# Altium schematic symbol library ZLM.SchLib: 46 symbols
Pins are listed as number, name and electrical type; pins without a type are passive.

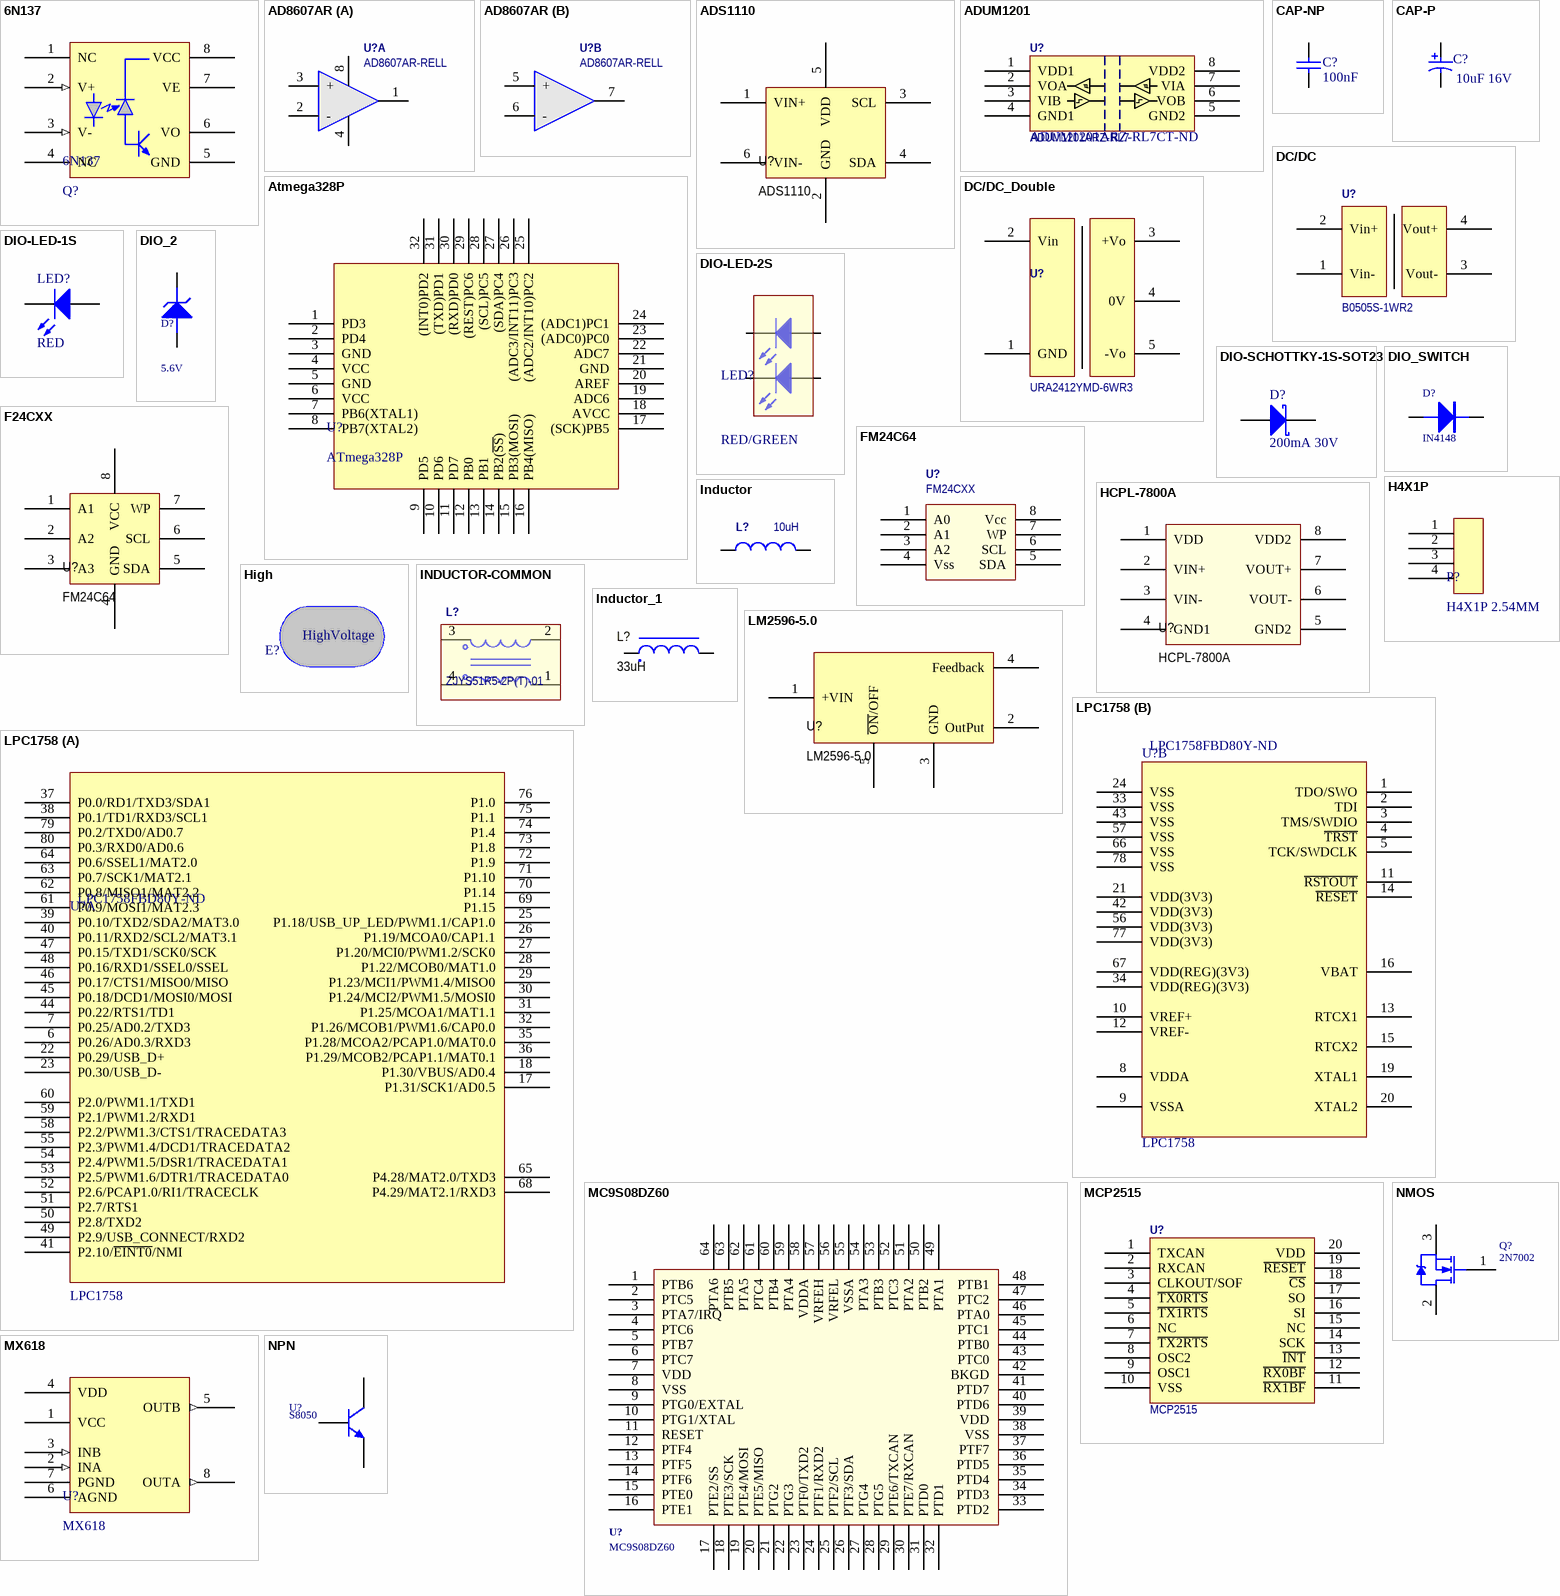
[diagram p0: symbols 6N137 to NPN]

## 6N137
designator 6N137, comment Q?
6N137
footprint DIP8
pins: 1 NC (power), 2 V+ (in), 3 V- (in), 4 NC (power), 5 GND (power), 6 VO, 7 VE, 8 VCC (power)

## AD8607AR
designator U?, comment AD8607AR-RELL
Low Nosi CMOS Rail-to-Rail Input/Output Operational Amplifiers
footprint SOP-8
part A pins: 1 OUT1, 2 -, 3 +, 4 V- (power), 8 V+ (power)
part B pins: 5 +, 6 -, 7 OUT2

## ADS1110
designator U?
16-Bit ANALOG-TO-DIGITAL CONVERTER; Value: 2.048V,+-0.05%
pins: 1 VIN+, 2 GND, 3 SCL, 4 SDA, 5 VDD, 6 VIN-

## ADUM1201
designator U?, comment ADUM1201ARZ-RL7  Supplier Part Number 1: ADUM1201ARZ-RL7CT-ND
Dual-Channel Digital Isolators; Supplier 1: Digi-Key
footprint SOP-8
pins: 1 VDD1, 2 VOA, 3 VIB, 4 GND1, 5 GND2, 6 VOB, 7 VIA, 8 VDD2

## Atmega328P
designator U?, comment ATmega328P
High Performance, Low Power AVR? 8-Bit Microcontroller
footprint TQFP32 (Thin QFP, 32-Leads, Body 7x7mm, Pitch 0.8mm, IPC Medium Density)
pins: 1 PD3, 2 PD4, 3 GND, 4 VCC, 5 GND, 6 VCC, 7 PB6(XTAL1), 8 PB7(XTAL2), 9 PD5, 10 PD6, 11 PD7, 12 PB0, 13 PB1, 14 PB2(~{SS}), 15 PB3(MOSI), 16 PB4(MISO), 17 (SCK)PB5, 18 AVCC, 19 ADC6, 20 AREF, 21 GND, 22 ADC7, 23 (ADC0)PC0, 24 (ADC1)PC1, 25 (ADC2/INT10)PC2, 26 (ADC3/INT11)PC3, 27 (SDA)PC4, 28 (SCL)PC5, 29 (REST)PC6, 30 (RXD)PD0, 31 (TXD)PD1, 32 (INT0)PD2

## CAP-NP
designator C?, comment 100nF
Capacitor; Value: 16V; Design Item Id: CAP-NP-100nF-16V-0603
footprint 0603S
pins: 1, 2

## CAP-P
designator C?, comment 10uF 16V
Polar Capacitor; Design Item Id: CAP-P-10uF-16V-MCCT-B
footprint SMD-D10MM
pins: 1, 2

## DC/DC
designator U?, comment B0505S-1WR2
MORNSUN DC/DC; Value: DC5V,1W,1500VDC,SIP/DIP
footprint DC/DC 2.54-4P
pins: 1 Vin-, 2 Vin+, 3 Vout-, 4 Vout+

## DC/DC_Double
designator U?, comment URA2412YMD-6WR3
MORNSUN DC/DC,URA2412YMD-6WR3,9-36V,6W; Value: DC9-36V,6W,(+-12V),1500VDC,SIP/DIP
footprint URA/B_YMD-6WR3
pins: 1 GND, 2 Vin, 3 +Vo, 4 0V, 5 -Vo

## DIO-LED-1S
designator LED?, comment RED
Typical GREEN SMD LED Agilent make; Design Item Id: LED-RED-HSMHC170
footprint 0603D
pins: 1 A, 2 K

## DIO-LED-2S
designator LED?, comment RED/GREEN
Typical GREEN SMD LED Agilent make; Design Item Id: LED-RED-HSMHC170
footprint DIP_LES_2S_90W
pins: 1 A, 2 K, 3 A, 4 K

## DIO-SCHOTTKY-1S-SOT23
designator D?, comment 200mA 30V
Schottky Barrier Double Diode; Design Item Id: DIO-SCHOTTKY-1S-SOT23
footprint SOD-323
pins: 1 A, 2 K

## DIO_2
designator D?, comment 5.6V
Silicon Epitaxial Planar Switching Diode,75V
footprint SOD-323
pins: 1 A, 2 K

## DIO_SWITCH
designator D?, comment IN4148
Silicon Epitaxial Planar Switching Diode,75V
footprint 1206D
footprint DO-214AC
pins: 1 A, 2 K

## F24CXX
designator U?, comment FM24C64
FM24C64,8K FLASH,IIC; Value: FM24C64
footprint SOP-8
pins: 1 A1, 2 A2, 3 A3, 4 GND, 5 SDA, 6 SCL, 7 WP, 8 VCC

## FM24C64
designator U?, comment FM24CXX
IIC Interface Serial EEPROM
footprint SOP-8
pins: 1 A0, 2 A1, 3 A2, 4 Vss, 5 SDA, 6 SCL, 7 WP, 8 Vcc

## H4X1P
designator P?, comment H4X1P 2.54MM
footprint HDR1X4H-2.54MM
pins: 1, 2, 3, 4

## HCPL-7800A
designator U?
High CMR Isolation Amplifiers; Value: 15kV/s Common-Mode
footprint SOP-8L
pins: 1 VDD, 2 VIN+, 3 VIN-, 4 GND1, 5 GND2, 6 VOUT-, 7 VOUT+, 8 VDD2

## High
designator E?, comment HighVoltage  (value not drawn)
footprint IEC_HighVoltage_Small

## Inductor
designator L?, comment 10uH
Indutor; Code_IEC: 1005; Published: 8-Jun-2000; LatestRevisionDate: 29-May-2009; LatestRevisionNote: IPC-7351 Footprint Added.; PackageReference: 0402-A; Publisher: Altium Limited; PackageDescription: Chip Inductor; Code_JEITA: 0402; Value: 10uH
footprint 0805
pins: 1, 2

## INDUCTOR-COMMON
designator L?, comment ZJYS51R5-2P(T)-01
Common Mode Filters For General Signal Line
footprint ZJYS51R5-2P(T)-01
pins: 1, 2, 3, 4

## Inductor_1
designator L?, comment 33uH
Inductor_1; Value: CDRH127R 12*12*7MM
pins: 1, 2

## LM2596-5.0
designator U?
LM2596 SIMPLE SWITCHER? Power Converter 150-kHz  3-A Step-Down Voltage Regulator; Value: 5-V
footprint SOT-263-5
pins: 1 +VIN, 2 OutPut, 3 GND, 4 Feedback, 5 ~{ON}/OFF

## LPC1758
designator U?  Supplier Part Number 1: LPC1758FBD80Y-ND
LPC1759/58/56/54/52/51  32-bit ARM Cortex-M3 MCU; up to 512 kB flash and 64 kB  SRAM with Ethernet, USB 2.0 Host/Device/OTG, CAN; Supplier 1: Digi-Key
footprint LQFP80
part A pins: 6 P0.26/AD0.3/RXD3, 7 P0.25/AD0.2/TXD3, 17 P1.31/SCK1/AD0.5, 18 P1.30/VBUS/AD0.4, 22 P0.29/USB_D+, 23 P0.30/USB_D-, 25 P1.18/USB_UP_LED/PWM1.1/CAP1.0, 26 P1.19/MCOA0/CAP1.1, 27 P1.20/MCI0/PWM1.2/SCK0, 28 P1.22/MCOB0/MAT1.0, 29 P1.23/MCI1/PWM1.4/MISO0, 30 P1.24/MCI2/PWM1.5/MOSI0, 31 P1.25/MCOA1/MAT1.1, 32 P1.26/MCOB1/PWM1.6/CAP0.0, 35 P1.28/MCOA2/PCAP1.0/MAT0.0, 36 P1.29/MCOB2/PCAP1.1/MAT0.1, 37 P0.0/RD1/TXD3/SDA1, 38 P0.1/TD1/RXD3/SCL1, 39 P0.10/TXD2/SDA2/MAT3.0, 40 P0.11/RXD2/SCL2/MAT3.1, 41 P2.10/~{EINT0}/NMI, 44 P0.22/RTS1/TD1, 45 P0.18/DCD1/MOSI0/MOSI, 46 P0.17/CTS1/MISO0/MISO, 47 P0.15/TXD1/SCK0/SCK, 48 P0.16/RXD1/SSEL0/SSEL, 49 P2.9/USB_CONNECT/RXD2, 50 P2.8/TXD2, 51 P2.7/RTS1, 52 P2.6/PCAP1.0/RI1/TRACECLK, 53 P2.5/PWM1.6/DTR1/TRACEDATA0, 54 P2.4/PWM1.5/DSR1/TRACEDATA1, 55 P2.3/PWM1.4/DCD1/TRACEDATA2, 58 P2.2/PWM1.3/CTS1/TRACEDATA3, 59 P2.1/PWM1.2/RXD1, 60 P2.0/PWM1.1/TXD1, 61 P0.9/MOSI1/MAT2.3, 62 P0.8/MISO1/MAT2.2, 63 P0.7/SCK1/MAT2.1, 64 P0.6/SSEL1/MAT2.0, 65 P4.28/MAT2.0/TXD3, 68 P4.29/MAT2.1/RXD3, 69 P1.15, 70 P1.14, 71 P1.10, 72 P1.9, 73 P1.8, 74 P1.4, 75 P1.1, 76 P1.0, 79 P0.2/TXD0/AD0.7, 80 P0.3/RXD0/AD0.6
part B pins: 1 TDO/SWO, 2 TDI, 3 TMS/SWDIO, 4 ~{TRST}, 5 TCK/SWDCLK, 8 VDDA, 9 VSSA, 10 VREF+, 11 ~{RSTOUT}, 12 VREF-, 13 RTCX1, 14 ~{RESET}, 15 RTCX2, 16 VBAT, 19 XTAL1, 20 XTAL2, 21 VDD(3V3), 24 VSS, 33 VSS, 34 VDD(REG)(3V3), 42 VDD(3V3), 43 VSS, 56 VDD(3V3), 57 VSS, 66 VSS, 67 VDD(REG)(3V3), 77 VDD(3V3), 78 VSS

## MC9S08DZ60
designator U?
FreeScale
footprint TQFP64_EP
pins: 1 PTB6, 2 PTC5, 3 PTA7/IRQ, 4 PTC6, 5 PTB7, 6 PTC7, 7 VDD, 8 VSS, 9 PTG0/EXTAL, 10 PTG1/XTAL, 11 RESET, 12 PTF4, 13 PTF5, 14 PTF6, 15 PTE0, 16 PTE1, 17 PTE2/SS, 18 PTE3/SCK, 19 PTE4/MOSI, 20 PTE5/MISO, 21 PTG2, 22 PTG3, 23 PTF0/TXD2, 24 PTF1/RXD2, 25 PTF2/SCL, 26 PTF3/SDA, 27 PTG4, 28 PTG5, 29 PTE6/TXCAN, 30 PTE7/RXCAN, 31 PTD0, 32 PTD1, 33 PTD2, 34 PTD3, 35 PTD4, 36 PTD5, 37 PTF7, 38 VSS, 39 VDD, 40 PTD6, 41 PTD7, 42 BKGD, 43 PTC0, 44 PTB0, 45 PTC1, 46 PTA0, 47 PTC2, 48 PTB1, 49 PTA1, 50 PTB2, 51 PTA2, 52 PTC3, 53 PTB3, 54 PTA3, 55 VSSA, 56 VRFEL, 57 VRFEH, 58 VDDA, 59 PTA4, 60 PTB4, 61 PTC4, 62 PTA5, 63 PTB5, 64 PTA6

## MCP2515
designator U?
Microchip MCP2515
footprint TSSOP20 (Shrink Small Outline; 20 Leads; Body Width 4.4 mm; Pitch 0.65 mm)
pins: 1 TXCAN, 2 RXCAN, 3 CLKOUT/SOF, 4 ~{TX0RTS}, 5 ~{TX1RTS}, 6 NC, 7 ~{TX2RTS}, 8 OSC2, 9 OSC1, 10 VSS, 11 ~{RX1BF}, 12 ~{RX0BF}, 13 ~{INT}, 14 SCK, 15 NC, 16 SI, 17 SO, 18 ~{CS}, 19 ~{RESET}, 20 VDD

## MX618
designator U?
DC 2V-9.6V Motor Contl
footprint SOP-8
pins: 1 VCC (power), 2 INA (in), 3 INB (in), 4 VDD (power), 5 OUTB (out), 6 AGND, 7 PGND, 8 OUTA (out)

## NMOS
designator Q?, comment 2N7002
N-Channel MOSFET
footprint SOT-23
pins: 1 G, 2 S, 3 D

## NPN
designator U?, comment S8050
NPN,Silicon Epitaxial Planar Transistor; Design Item Id: MMBT5551
footprint SOT23
pins: 1 B, 2 E, 3 C

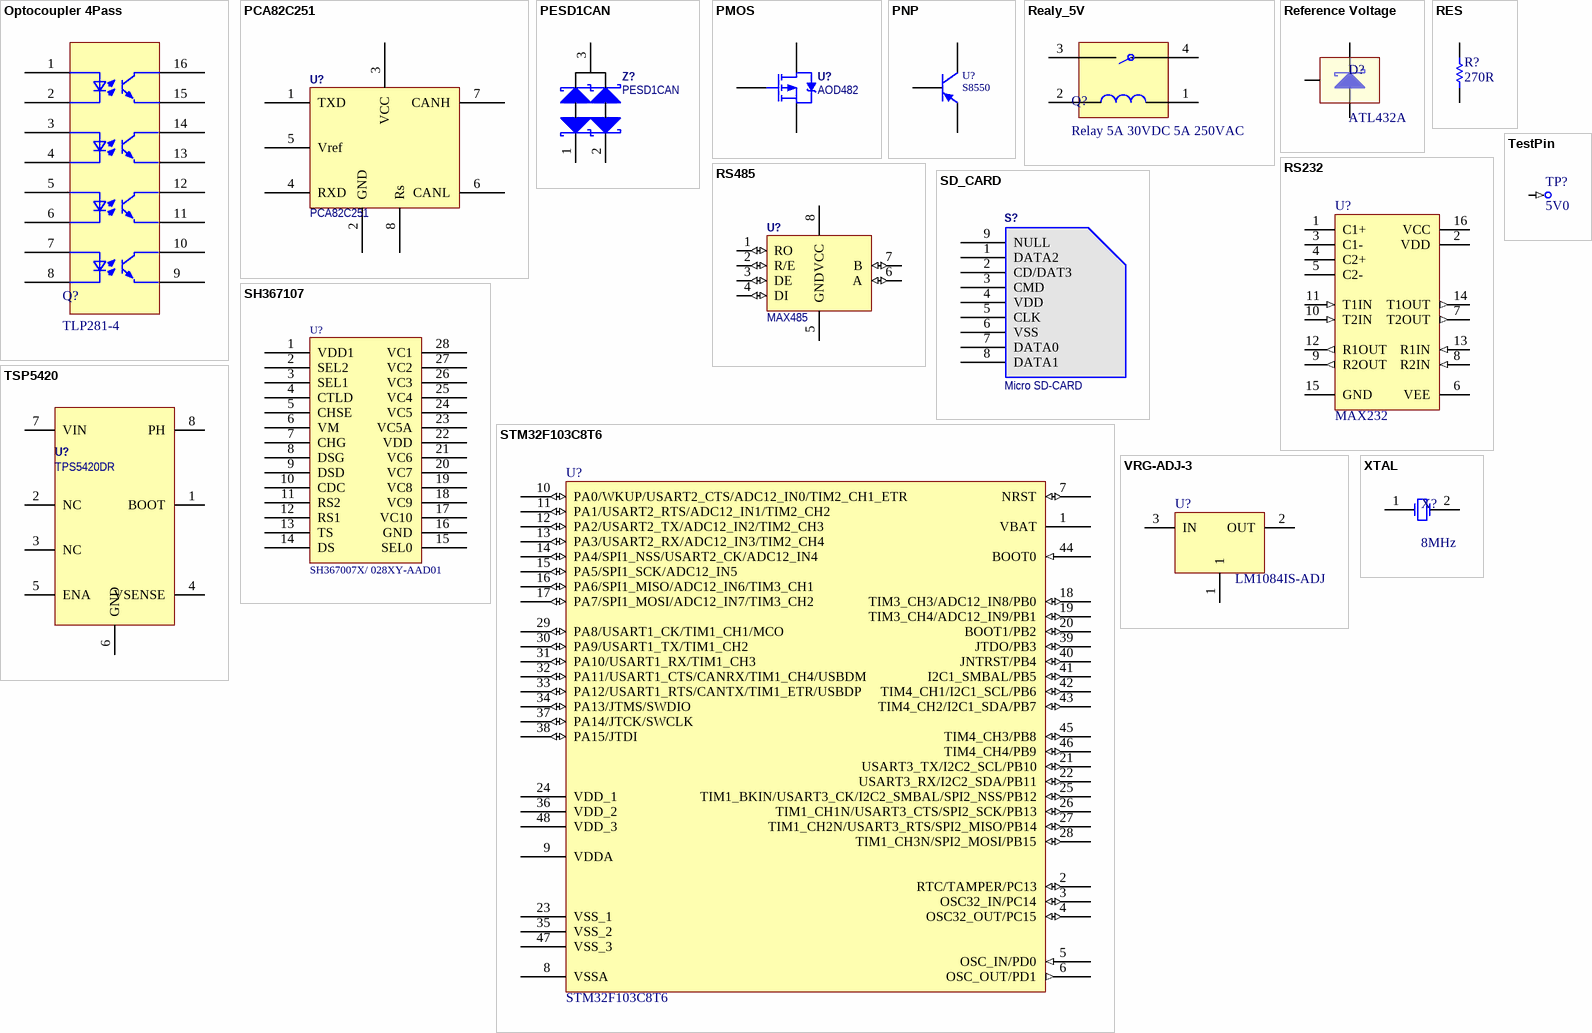
[diagram p1: symbols Optocoupler 4Pass to XTAL]

## Optocoupler 4Pass
designator Q?, comment TLP281-4
TLP281-4 TOSHIBA PHOTOCOUPLER GaAs IRED & PHOTO-TRANSISTOR; Value: 80V,Current transfer Radio 50%
footprint SOP-16
pins: 1, 2, 3, 4, 5, 6, 7, 8, 9, 10, 11, 12, 13, 14, 15, 16

## PCA82C251
designator U?
NXP CAN transceiver for 24V system
footprint SOP-8
pins: 1 TXD, 2 GND, 3 VCC (power), 4 RXD, 5 Vref, 6 CANL, 7 CANH, 8 Rs

## PESD1CAN
designator Z?
CAN bus ESD protection diode
footprint SOT-23
pins: 1, 2, 3

## PMOS
designator U?, comment AOD482
N-Channel MOSFET
footprint SOT-253
pins: 1 G, 2 S, 3 D

## PNP
designator U?, comment S8550
PNP,Silicon Epitaxial Planar Transistor
footprint SOT-23
pins: 1 B, 2 E, 3 C

## Realy_5V
designator Q?, comment Relay 5A 30VDC 5A 250VAC
Relay  5A 30VDC 5A 250VAC; Value: 5A 30VDC
footprint HF49FD
pins: 1, 2, 3, 4

## Reference Voltage
designator D?, comment ATL432A
Reference Voltage; Value: ATL432A
footprint SOT23
pins: 1 C, 2 Ref, 3 A

## RES
designator R?, comment 270R
Resistor; Value: 5%,1/10W,0603
footprint 0603S
pins: 1, 2

## RS232
designator U?, comment MAX232
+5V Powered, Multi-Channel RS-232 Driver/Receiver
footprint SOP16
pins: 1 C1+, 2 VDD (power), 3 C1-, 4 C2+, 5 C2-, 6 VEE (power), 7 T2OUT (out), 8 R2IN (in), 9 R2OUT (out), 10 T2IN (in), 11 T1IN (in), 12 R1OUT (out), 13 R1IN (in), 14 T1OUT (out), 15 GND (power), 16 VCC (power)

## RS485
designator U?, comment MAX485
MAXIM,RS-485/RS-422 Transceivers
footprint SOP-8
pins: 1 RO (io), 2 R/E (io), 3 DE (io), 4 DI (io), 5 GND (power), 6 A (io), 7 B (io), 8 VCC (power)

## SD_CARD
designator S?, comment Micro SD-CARD
Micro SD Card,TFT
footprint MIC_TF
pins: 1 DATA2, 2 CD/DAT3, 3 CMD, 4 VDD, 5 CLK, 6 VSS, 7 DATA0, 8 DATA1, 9 NULL

## SH367107
designator U?, comment SH367007X/ 028XY-AAD01
SH367107; PartNumber: SH367007X/ 028XY-AAD01
footprint TSSOP28L
pins: 1 VDD1, 2 SEL2, 3 SEL1, 4 CTLD, 5 CHSE, 6 VM, 7 CHG, 8 DSG, 9 DSD, 10 CDC, 11 RS2, 12 RS1, 13 TS, 14 DS, 15 SEL0, 16 GND, 17 VC10, 18 VC9, 19 VC8, 20 VC7, 21 VC6, 22 VDD, 23 VC5A, 24 VC5, 25 VC4, 26 VC3, 27 VC2, 28 VC1

## STM32F103C8T6
designator U?
ST MCU,STM32F103C8T6,64Kb Flash,20Kb RAM
footprint LQFP-48 (TSQFP, 48-Leads, Body 9.2x9.2mm (max), Pitch 0.50mm, IPC Medium Density)
pins: 1 VBAT (power), 2 RTC/TAMPER/PC13 (io), 3 OSC32_IN/PC14 (io), 4 OSC32_OUT/PC15 (io), 5 OSC_IN/PD0 (in), 6 OSC_OUT/PD1 (out), 7 NRST (io), 8 VSSA (power), 9 VDDA (power), 10 PA0/WKUP/USART2_CTS/ADC12_IN0/TIM2_CH1_ETR (io), 11 PA1/USART2_RTS/ADC12_IN1/TIM2_CH2 (io), 12 PA2/USART2_TX/ADC12_IN2/TIM2_CH3 (io), 13 PA3/USART2_RX/ADC12_IN3/TIM2_CH4 (io), 14 PA4/SPI1_NSS/USART2_CK/ADC12_IN4 (io), 15 PA5/SPI1_SCK/ADC12_IN5 (io), 16 PA6/SPI1_MISO/ADC12_IN6/TIM3_CH1 (io), 17 PA7/SPI1_MOSI/ADC12_IN7/TIM3_CH2 (io), 18 TIM3_CH3/ADC12_IN8/PB0 (io), 19 TIM3_CH4/ADC12_IN9/PB1 (io), 20 BOOT1/PB2 (io), 21 USART3_TX/I2C2_SCL/PB10 (io), 22 USART3_RX/I2C2_SDA/PB11 (io), 23 VSS_1 (power), 24 VDD_1 (power), 25 TIM1_BKIN/USART3_CK/I2C2_SMBAL/SPI2_NSS/PB12 (io), 26 TIM1_CH1N/USART3_CTS/SPI2_SCK/PB13 (io), 27 TIM1_CH2N/USART3_RTS/SPI2_MISO/PB14 (io), 28 TIM1_CH3N/SPI2_MOSI/PB15 (io), 29 PA8/USART1_CK/TIM1_CH1/MCO (io), 30 PA9/USART1_TX/TIM1_CH2 (io), 31 PA10/USART1_RX/TIM1_CH3 (io), 32 PA11/USART1_CTS/CANRX/TIM1_CH4/USBDM (io), 33 PA12/USART1_RTS/CANTX/TIM1_ETR/USBDP (io), 34 PA13/JTMS/SWDIO (io), 35 VSS_2 (power), 36 VDD_2 (power), 37 PA14/JTCK/SWCLK (io), 38 PA15/JTDI (io), 39 JTDO/PB3 (io), 40 JNTRST/PB4 (io), 41 I2C1_SMBAL/PB5 (io), 42 TIM4_CH1/I2C1_SCL/PB6 (io), 43 TIM4_CH2/I2C1_SDA/PB7 (io), 44 BOOT0 (in), 45 TIM4_CH3/PB8 (io), 46 TIM4_CH4/PB9 (io), 47 VSS_3 (power), 48 VDD_3 (power)

## TestPin
designator TP?, comment 5V0  (no BOM)
Design Item Id: TestPin
footprint T60
pins: 1 (in)

## TSP5420
designator U?, comment TPS5420DR
2A,Wide Input Range,Step-Down Converter; Value: 5.5V to 36V
footprint SOP-8
pins: 1 BOOT, 2 NC, 3 NC, 4 VSENSE, 5 ENA, 6 GND, 7 VIN, 8 PH

## VRG-ADJ-3
designator U?, comment LM1084IS-ADJ
5A Low Dropout Positive Regulators; Design Item Id: LM1084IS-ADJ
footprint SOT-223
pins: 1 "Output", 2 OUT (power) "Output", 3 IN (power) "Input"

## XTAL
designator X?, comment 8MHz
Crystal Oscillator; Published: 8-Jun-2000; LatestRevisionDate: 17-Jul-2002; LatestRevisionNote: Re-released for DXP Platform.; PackageReference: R38; Publisher: Altium Limited
footprint 5032
pins: 1 OSC1, 2 OSC2